# Altium schematic symbol library smd resistor 4x2mm.SCHLIB: 1 symbol
Pins are listed as number, name and electrical type; pins without a type are passive.

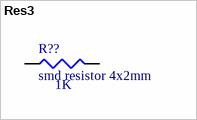
[diagram p0: symbol Res3]

## Res3
designator R??, comment smd resistor 4x2mm  value 1K
Published: 8-Jun-2000; LatestRevisionDate: 29-May-2009; LatestRevisionNote: IPC-7351 Footprint Added.; PackageReference: J1-0603; Publisher: Altium Limited; PackageDescription: Chip Resistor
footprint smd resistor 4x2mm
pins: 1, 2